# Altium footprint library Tu dien.PcbLib: 12 footprints
Each footprint in its own frame and in the unit in brackets; x right, y up, seen from the top. Pads: shape width x height; smd on the part's side, far side on the other; paste and mask are expansions set on the pad; w line width, h text height; cw(c..) or ccw(c..) is an arc to the next point about the centre after c.
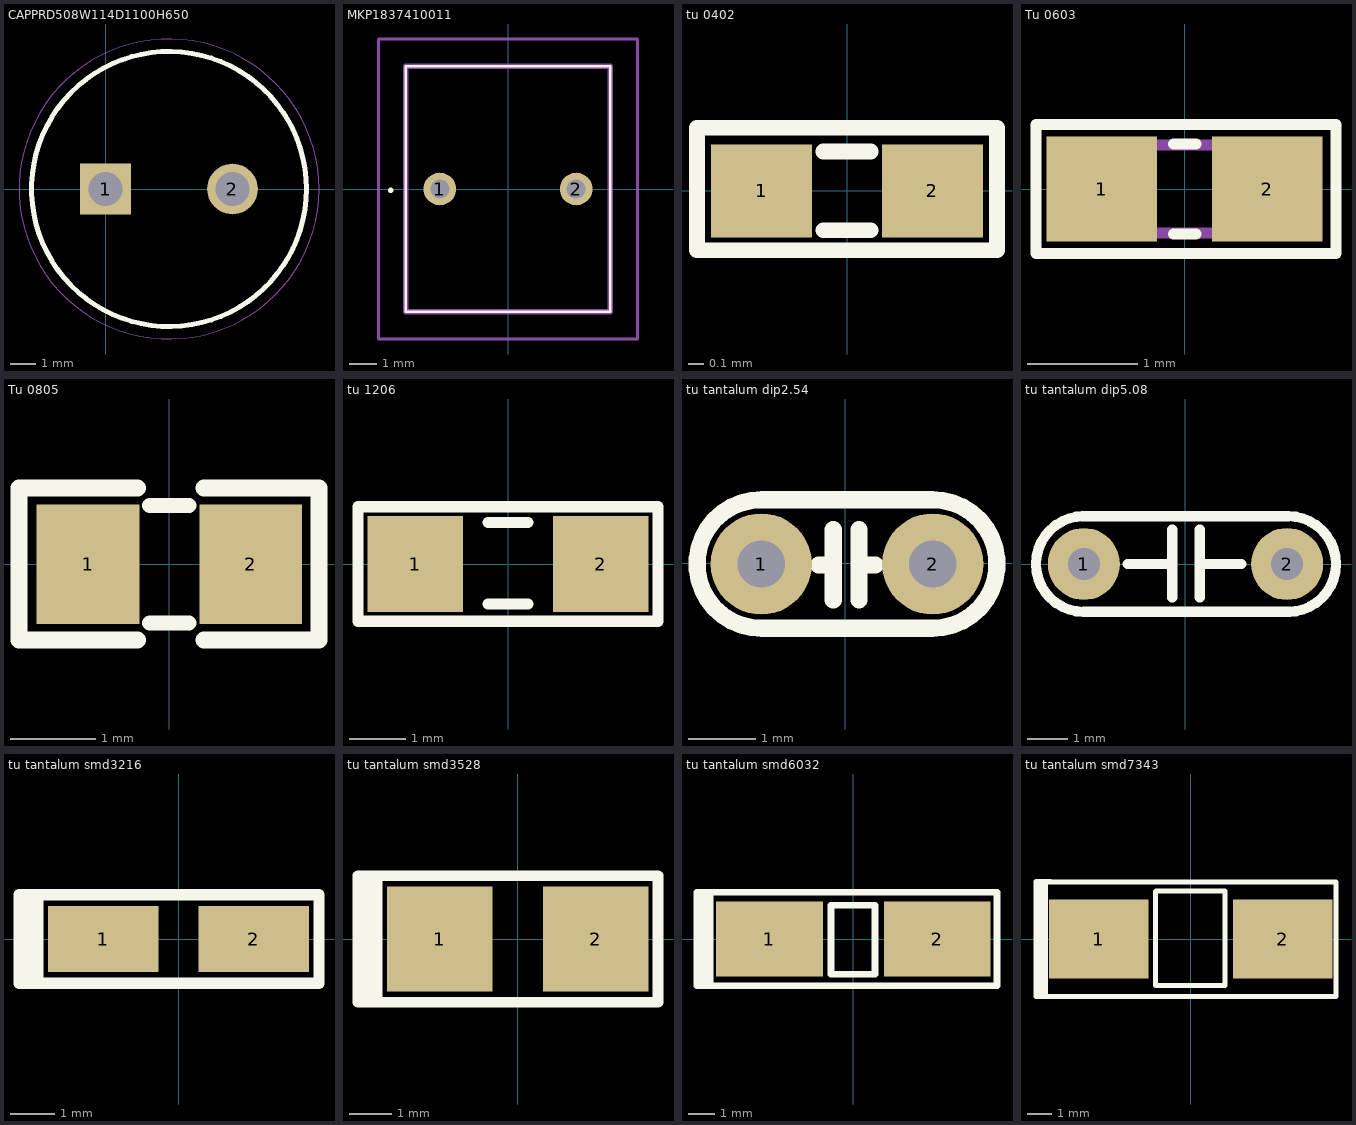
[diagram p0: the footprints below, top view; thin cyan lines are the x and y axes]

## CAPPRD508W114D1100H650 [mm]
pads (2):
  rect 2.025x2.025 / inner round 2.025 / far side rect 2.025x2.025 hole 1.35: 1(0,0)
  round 2.025 hole 1.35: 2(5.08,0)
Top Overlay:
  circle w0.2: c2.54,0 r5.5
Mechanical 15:
  circle w0.1: c2.54,0 r5.5
Mechanical 20:
  circle w0.05: c2.54,0 r6
3D body "FG0H104ZF.stp": height 6.5, standoff -3, extent -3.336,-5.877 8.163,5.623

## MKP1837410011 [mm]
pads (2):
  round 1.2 hole 0.7: 1(-2.5,0) 2(2.5,0)
Top Overlay:
  lines w0.1: -4.3,-0.1 ccw(c-4.3,-0.05) -4.3,0 ccw(c-4.3,-0.05) -4.3,-0.1 ; -3.75,-4.5 3.75,-4.5 3.75,4.5 -3.75,4.5 -3.75,-4.5
Mechanical 15:
  lines w0.2: -3.75,-4.5 3.75,-4.5 3.75,4.5 -3.75,4.5 -3.75,-4.5
Mechanical 20:
  lines w0.1: -4.75,-5.5 4.75,-5.5 4.75,5.5 -4.75,5.5 -4.75,-5.5
3D body "MKP1837410011.stp": height 11.1, standoff -5, extent -3.75,-4.5 3.75,4.5

## tu 0402 [mm]
pads (2):
  rect 0.65x0.6 smd: 1(-0.55,0) 2(0.55,0)
Top Overlay:
  lines w0.1: -0.152,-0.254 0.152,-0.254 ; -0.152,0.254 0.152,0.254 ; -0.965,-0.381 -0.965,0.406 0.965,0.406 0.965,-0.381 -0.965,-0.381
3D body "capacitor-0402C.step": height 0.35, standoff 0, extent -0.5,-0.265 0.5,0.265

## Tu 0603 [mm] "Chip Capacitor, 2-Leads, Body 1,60x0,80mm, IPC Medium Density"
height 0.5
pads (2):
  rect 1x0.95 smd mask+0.076: 1(-0.75,0) 2(0.75,0)
Top Overlay:
  lines w0.102: -0.102,-0.406 0.102,-0.406 ; -0.102,0.406 0.102,0.406 ; -1.346,-0.584 1.372,-0.584 1.372,0.584 -1.346,0.584 -1.346,-0.584
Mechanical 13:
  lines w0.1: -0.8,-0.4 0.8,-0.4 0.8,0.4 -0.8,0.4 -0.8,-0.4
3D body "User Library-CAPC1608X09.step": height 0.9, standoff 0, extent -0.8,-0.4 0.8,0.4

## Tu 0805 [mm] "Compoment SMD 80x50mil"
height 1.27
pads (2):
  rect 1.2x1.4 smd: 1(-0.946,-0.003) 2(0.954,-0.003)
Top Overlay:
  lines w0.178: -0.224,-0.689 0.233,-0.689 ; -0.224,0.682 0.233,0.682
  lines w0.2: -0.367,-0.889 -1.753,-0.889 -1.753,0.889 -0.367,0.889 ; 0.408,-0.889 1.753,-0.889 1.753,0.889 0.408,0.889
3D body "SW3dPS-smt_resistor_packages.STEP": height 0.61, standoff -0.01, extent -1.006,-0.638 1.014,0.632

## tu 1206 [mm]
pads (2):
  rect 1.7x1.7 smd: 1(-1.65,0) 2(1.65,0)
Top Overlay:
  lines w0.2: -0.356,-0.711 0.356,-0.711 ; -0.356,0.737 0.356,0.737 ; -2.667,-1.016 2.667,-1.016 2.667,-0.483 2.667,1.016 -2.667,1.016 -2.667,-1.016
3D body "capacitor 1206.step": height 0.94, standoff 0, extent -1.575,-0.8 1.625,0.8

## tu tantalum dip2.54 [mm]
pads (2):
  round 1.5 hole 0.7: 1(-1.245,-0.013) 2(1.295,-0.013)
Top Overlay:
  lines w0.254: -0.394,-0.025 -0.178,-0.025 ; -0.178,-0.546 -0.178,0.495 ; 0.203,-0.546 0.203,0.495 ; 0.203,-0.025 0.445,-0.025 ; -1.232,-0.966 cw(c-1.245,-0.013) -1.232,0.94 1.282,0.94 cw(c1.295,-0.013) 1.282,-0.966 -1.232,-0.966
3D body "CAP_TANT_DIP2.54.step": height 11.02, standoff 0, extent -2.119,-2.184 2.261,2.2

## tu tantalum dip5.08 [mm]
pads (2):
  round 1.8 hole 0.8: 1(-2.54,0) 2(2.54,0)
Top Overlay:
  lines w0.254: -2.565,1.194 2.565,1.194 ; -2.541,-1.195 cw(c-2.54,0) -2.541,1.195 ; -2.489,-1.194 2.591,-1.194 ; -1.448,0 -0.406,0 ; -0.33,-0.838 -0.33,0.864 ; 0.356,-0.838 0.356,0.864 ; 0.356,0 1.397,0 ; 2.566,-1.195 ccw(c2.565,0) 2.566,1.195
3D body "TU_TATA_5.08.step": height 6.27, standoff -0.47, extent -2.819,-1.079 2.769,1.08

## tu tantalum smd3216 [mm]
pads (2):
  rect 2.5x1.5 smd: 1(-1.7,0) 2(1.7,0)
Top Overlay:
  lines w0.254: -3.607,-1 -3.607,1 ; -3.556,-1 3.175,-1 3.175,1 -3.556,1 ; -3.378,-1 -3.378,1 ; -3.175,-1 -3.175,1
3D body "CAP_TANT_3216-18.step": height 1.69, standoff -0.01, extent -1.7,-0.9 1.7,0.9

## tu tantalum smd3528 [mm]
pads (2):
  rect 2.5x2.5 smd: 1(-1.85,0) 2(1.85,0)
Top Overlay:
  lines w0.254: -3.785,-1.5 -3.785,1.5 ; -3.785,-1.499 -3.2,-1.499 ; -3.785,1.499 -3.251,1.499 ; -3.556,-1.5 -3.556,1.5 ; -3.327,-1.5 3.327,-1.5 3.327,1.5 -3.327,1.5 -3.327,-1.5
3D body "CAP_TANT_3528.step": height 2.03, standoff 0, extent -1.85,-1.465 1.85,1.465

## tu tantalum smd6032 [mm]
pads (2):
  rect 4x2.8 smd: 1(-3.15,0) 2(3.15,0)
Top Overlay:
  lines w0.254: -5.867,-1.753 -5.486,-1.753 ; -5.867,-1.75 -5.867,1.75 ; -5.867,1.753 -5.563,1.753 ; -5.613,-1.75 -5.613,1.75 ; -5.563,-1.75 5.385,-1.75 5.385,1.75 -5.563,1.75 ; -5.385,-1.75 -5.385,1.75 ; -0.838,-1.321 -0.838,1.27 0.813,1.27 0.813,-1.321 -0.838,-1.321
3D body "CAP_TANT_6032-28_y.step": height 2.79, standoff -0.01, extent -3.15,-1.75 3.15,1.75

## tu tantalum smd7343 [mm]
pads (2):
  rect 4x3.2 smd: 1(-3.7,0) 2(3.7,0)
Top Overlay:
  lines w0.2: -6.231,2.3 -6.231,-2.311 -5.85,-2.311 ; -6.223,2.311 -5.639,2.311 ; -1.422,1.905 -1.422,-1.88 1.372,-1.88 1.372,1.93 -1.397,1.93 ; -5.85,-2.311 -5.85,2.3 5.85,2.3 5.85,-2.311 -5.85,-2.311
  lines w0.25: -6.053,-2.3 -6.053,2.3
3D body "CAP_TANT_7343-40.step": height 3.99, standoff -0.01, extent -3.749,-2.325 3.851,2.275